# Altium schematic symbol library SCH - MCU - SI LABS - SI LABS EFM32TG11B120F128GM64 64-PIN QFN 9X9.SchLib: 1 symbol
Pins are listed as number, name and electrical type; pins without a type are passive.

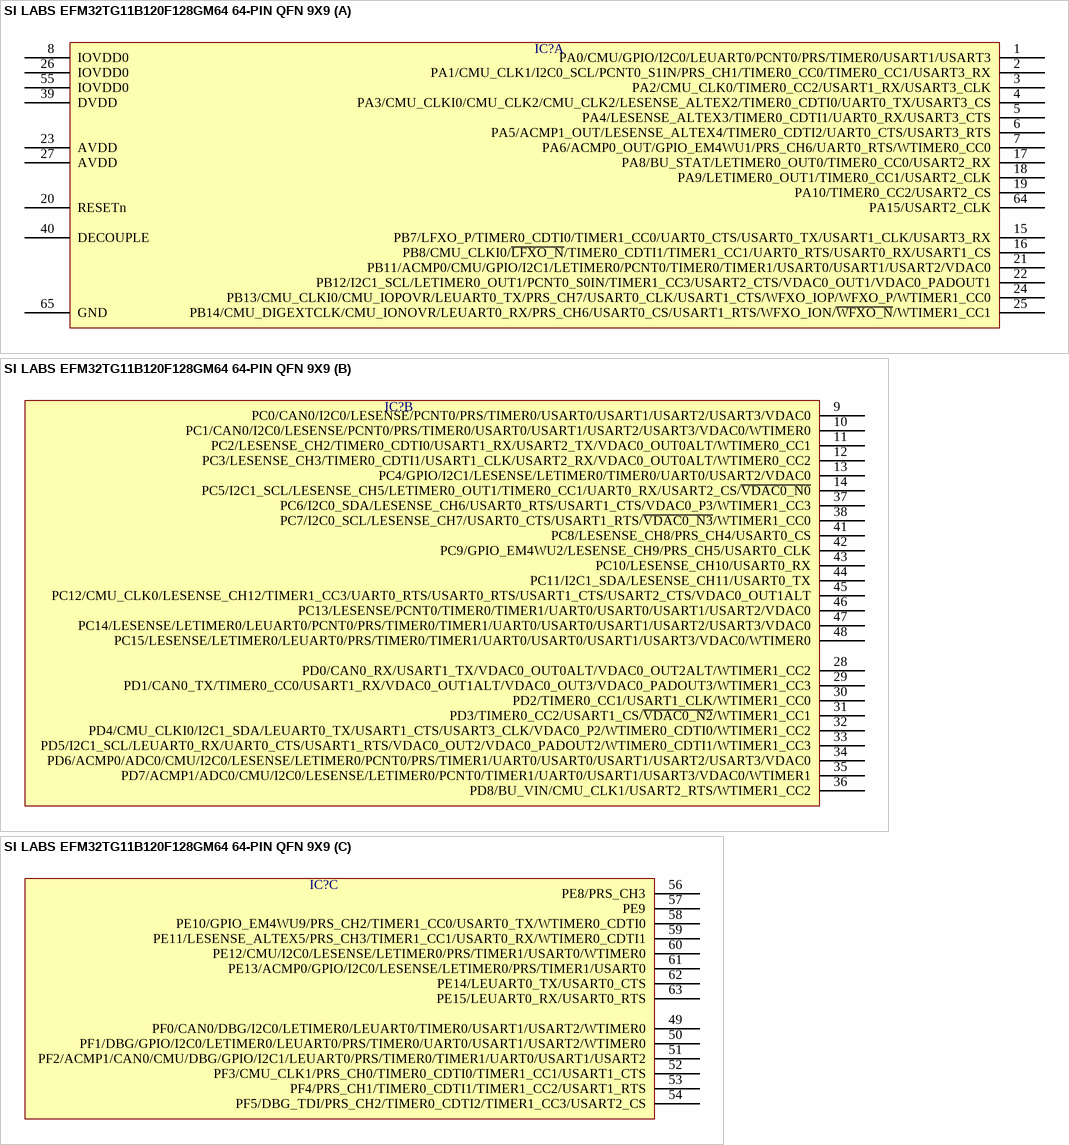
[diagram p0: symbol SI LABS EFM32TG11B120F128GM64 64-PIN QFN 9X9]

## SI LABS EFM32TG11B120F128GM64 64-PIN QFN 9X9
designator IC?  (value not drawn)
part A pins: 1 PA0/CMU/GPIO/I2C0/LEUART0/PCNT0/PRS/TIMER0/USART1/USART3, 2 PA1/CMU_CLK1/I2C0_SCL/PCNT0_S1IN/PRS_CH1/TIMER0_CC0/TIMER0_CC1/USART3_RX, 3 PA2/CMU_CLK0/TIMER0_CC2/USART1_RX/USART3_CLK, 4 PA3/CMU_CLKI0/CMU_CLK2/CMU_CLK2/LESENSE_ALTEX2/TIMER0_CDTI0/UART0_TX/USART3_CS, 5 PA4/LESENSE_ALTEX3/TIMER0_CDTI1/UART0_RX/USART3_CTS, 6 PA5/ACMP1_OUT/LESENSE_ALTEX4/TIMER0_CDTI2/UART0_CTS/USART3_RTS, 7 PA6/ACMP0_OUT/GPIO_EM4WU1/PRS_CH6/UART0_RTS/WTIMER0_CC0, 8 IOVDD0, 15 PB7/LFXO_P/TIMER0_CDTI0/TIMER1_CC0/UART0_CTS/USART0_TX/USART1_CLK/USART3_RX, 16 PB8/CMU_CLKI0/~{LFXO_N}/TIMER0_CDTI1/TIMER1_CC1/UART0_RTS/USART0_RX/USART1_CS, 17 PA8/BU_STAT/LETIMER0_OUT0/TIMER0_CC0/USART2_RX, 18 PA9/LETIMER0_OUT1/TIMER0_CC1/USART2_CLK, 19 PA10/TIMER0_CC2/USART2_CS, 20 RESETn, 21 PB11/ACMP0/CMU/GPIO/I2C1/LETIMER0/PCNT0/TIMER0/TIMER1/USART0/USART1/USART2/VDAC0, 22 PB12/I2C1_SCL/LETIMER0_OUT1/PCNT0_S0IN/TIMER1_CC3/USART2_CTS/VDAC0_OUT1/VDAC0_PADOUT1, 23 AVDD, 24 PB13/CMU_CLKI0/CMU_IOPOVR/LEUART0_TX/PRS_CH7/USART0_CLK/USART1_CTS/WFXO_IOP/WFXO_P/WTIMER1_CC0, 25 PB14/CMU_DIGEXTCLK/CMU_IONOVR/LEUART0_RX/PRS_CH6/USART0_CS/USART1_RTS/WFXO_ION/~{WFXO_N}/WTIMER1_CC1, 26 IOVDD0, 27 AVDD, 39 DVDD, 40 DECOUPLE, 55 IOVDD0, 64 PA15/USART2_CLK, 65 GND
part B pins: 9 PC0/CAN0/I2C0/LESENSE/PCNT0/PRS/TIMER0/USART0/USART1/USART2/USART3/VDAC0, 10 PC1/CAN0/I2C0/LESENSE/PCNT0/PRS/TIMER0/USART0/USART1/USART2/USART3/VDAC0/WTIMER0, 11 PC2/LESENSE_CH2/TIMER0_CDTI0/USART1_RX/USART2_TX/VDAC0_OUT0ALT/WTIMER0_CC1, 12 PC3/LESENSE_CH3/TIMER0_CDTI1/USART1_CLK/USART2_RX/VDAC0_OUT0ALT/WTIMER0_CC2, 13 PC4/GPIO/I2C1/LESENSE/LETIMER0/TIMER0/UART0/USART2/VDAC0, 14 PC5/I2C1_SCL/LESENSE_CH5/LETIMER0_OUT1/TIMER0_CC1/UART0_RX/USART2_CS/~{VDAC0_N0}, 28 PD0/CAN0_RX/USART1_TX/VDAC0_OUT0ALT/VDAC0_OUT2ALT/WTIMER1_CC2, 29 PD1/CAN0_TX/TIMER0_CC0/USART1_RX/VDAC0_OUT1ALT/VDAC0_OUT3/VDAC0_PADOUT3/WTIMER1_CC3, 30 PD2/TIMER0_CC1/USART1_CLK/WTIMER1_CC0, 31 PD3/TIMER0_CC2/USART1_CS/~{VDAC0_N2}/WTIMER1_CC1, 32 PD4/CMU_CLKI0/I2C1_SDA/LEUART0_TX/USART1_CTS/USART3_CLK/VDAC0_P2/WTIMER0_CDTI0/WTIMER1_CC2, 33 PD5/I2C1_SCL/LEUART0_RX/UART0_CTS/USART1_RTS/VDAC0_OUT2/VDAC0_PADOUT2/WTIMER0_CDTI1/WTIMER1_CC3, 34 PD6/ACMP0/ADC0/CMU/I2C0/LESENSE/LETIMER0/PCNT0/PRS/TIMER1/UART0/USART0/USART1/USART2/USART3/VDAC0, 35 PD7/ACMP1/ADC0/CMU/I2C0/LESENSE/LETIMER0/PCNT0/TIMER1/UART0/USART1/USART3/VDAC0/WTIMER1, 36 PD8/BU_VIN/CMU_CLK1/USART2_RTS/WTIMER1_CC2, 37 PC6/I2C0_SDA/LESENSE_CH6/USART0_RTS/USART1_CTS/VDAC0_P3/WTIMER1_CC3, 38 PC7/I2C0_SCL/LESENSE_CH7/USART0_CTS/USART1_RTS/~{VDAC0_N3}/WTIMER1_CC0, 41 PC8/LESENSE_CH8/PRS_CH4/USART0_CS, 42 PC9/GPIO_EM4WU2/LESENSE_CH9/PRS_CH5/USART0_CLK, 43 PC10/LESENSE_CH10/USART0_RX, 44 PC11/I2C1_SDA/LESENSE_CH11/USART0_TX, 45 PC12/CMU_CLK0/LESENSE_CH12/TIMER1_CC3/UART0_RTS/USART0_RTS/USART1_CTS/USART2_CTS/VDAC0_OUT1ALT, 46 PC13/LESENSE/PCNT0/TIMER0/TIMER1/UART0/USART0/USART1/USART2/VDAC0, 47 PC14/LESENSE/LETIMER0/LEUART0/PCNT0/PRS/TIMER0/TIMER1/UART0/USART0/USART1/USART2/USART3/VDAC0, 48 PC15/LESENSE/LETIMER0/LEUART0/PRS/TIMER0/TIMER1/UART0/USART0/USART1/USART3/VDAC0/WTIMER0
part C pins: 49 PF0/CAN0/DBG/I2C0/LETIMER0/LEUART0/TIMER0/USART1/USART2/WTIMER0, 50 PF1/DBG/GPIO/I2C0/LETIMER0/LEUART0/PRS/TIMER0/UART0/USART1/USART2/WTIMER0, 51 PF2/ACMP1/CAN0/CMU/DBG/GPIO/I2C1/LEUART0/PRS/TIMER0/TIMER1/UART0/USART1/USART2, 52 PF3/CMU_CLK1/PRS_CH0/TIMER0_CDTI0/TIMER1_CC1/USART1_CTS, 53 PF4/PRS_CH1/TIMER0_CDTI1/TIMER1_CC2/USART1_RTS, 54 PF5/DBG_TDI/PRS_CH2/TIMER0_CDTI2/TIMER1_CC3/USART2_CS, 56 PE8/PRS_CH3, 57 PE9, 58 PE10/GPIO_EM4WU9/PRS_CH2/TIMER1_CC0/USART0_TX/WTIMER0_CDTI0, 59 PE11/LESENSE_ALTEX5/PRS_CH3/TIMER1_CC1/USART0_RX/WTIMER0_CDTI1, 60 PE12/CMU/I2C0/LESENSE/LETIMER0/PRS/TIMER1/USART0/WTIMER0, 61 PE13/ACMP0/GPIO/I2C0/LESENSE/LETIMER0/PRS/TIMER1/USART0, 62 PE14/LEUART0_TX/USART0_CTS, 63 PE15/LEUART0_RX/USART0_RTS